# Altium footprint library C0805.PcbLib: 1 footprints
Each footprint in its own frame and in the unit in brackets; x right, y up, seen from the top. Pads: shape width x height; smd on the part's side, far side on the other; paste and mask are expansions set on the pad; w line width, h text height; cw(c..) or ccw(c..) is an arc to the next point about the centre after c.
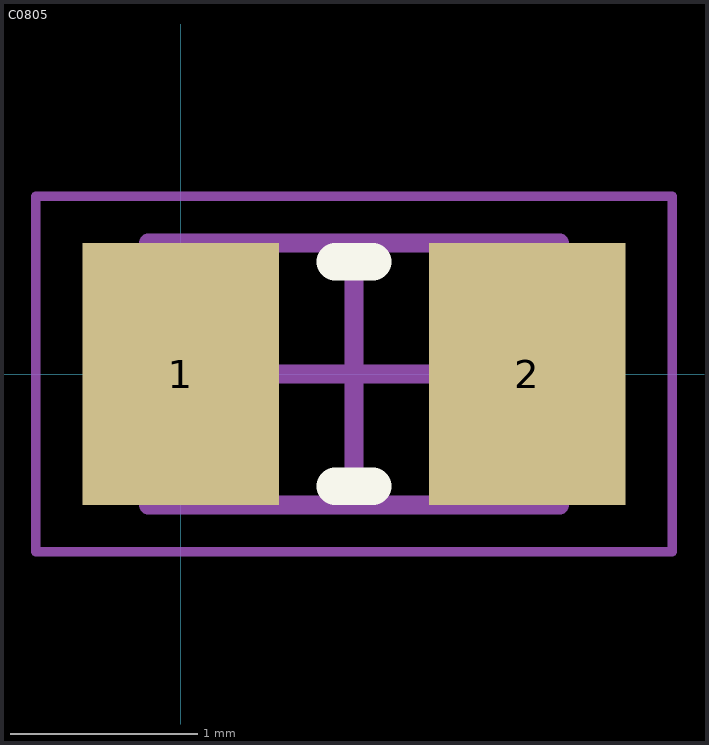
[diagram p0: the footprint, top view; thin cyan lines are the x and y axes]

## C0805 [mm]
pads (2):
  rect 1.05x1.4 smd: 1(0,0) 2(1.85,0)
Top Overlay:
  lines w0.2: 0.825,-0.6 1.025,-0.6 ; 0.825,0.6 1.025,0.6
TopAssy:
  lines w0.1: -0.175,-0.7 2.025,-0.7 2.025,0.7 -0.175,0.7 -0.175,-0.7
Mechanical 15:
  lines w0.05: -0.775,-0.95 2.625,-0.95 2.625,0.95 -0.775,0.95 -0.775,-0.95
  lines w0.1: 0.425,0 1.425,0 ; 0.925,-0.5 0.925,0.5
3D body "SW3dPS-0805 SMD Capacitor.STEP": height 0.78, standoff 0, extent -0.05,-0.625 1.95,0.625